# Altium schematic symbol library SCH - DIODES - SCHOTTKY_STPS340-Y.SCHLIB: 1 symbol
Pins are listed as number, name and electrical type; pins without a type are passive.

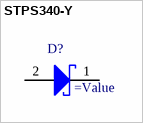
[diagram p0: symbol STPS340-Y]

## STPS340-Y
designator D?
Automotive power Schottky rectifier
pins: 1 K, 2 A